# Altium footprint library Cube.PcbLib: 27 footprints (part 1 of 2)
Each footprint in its own frame and in the unit in brackets; x right, y up, seen from the top. Pads: shape width x height; smd on the part's side, far side on the other; paste and mask are expansions set on the pad; w line width, h text height; cw(c..) or ccw(c..) is an arc to the next point about the centre after c.
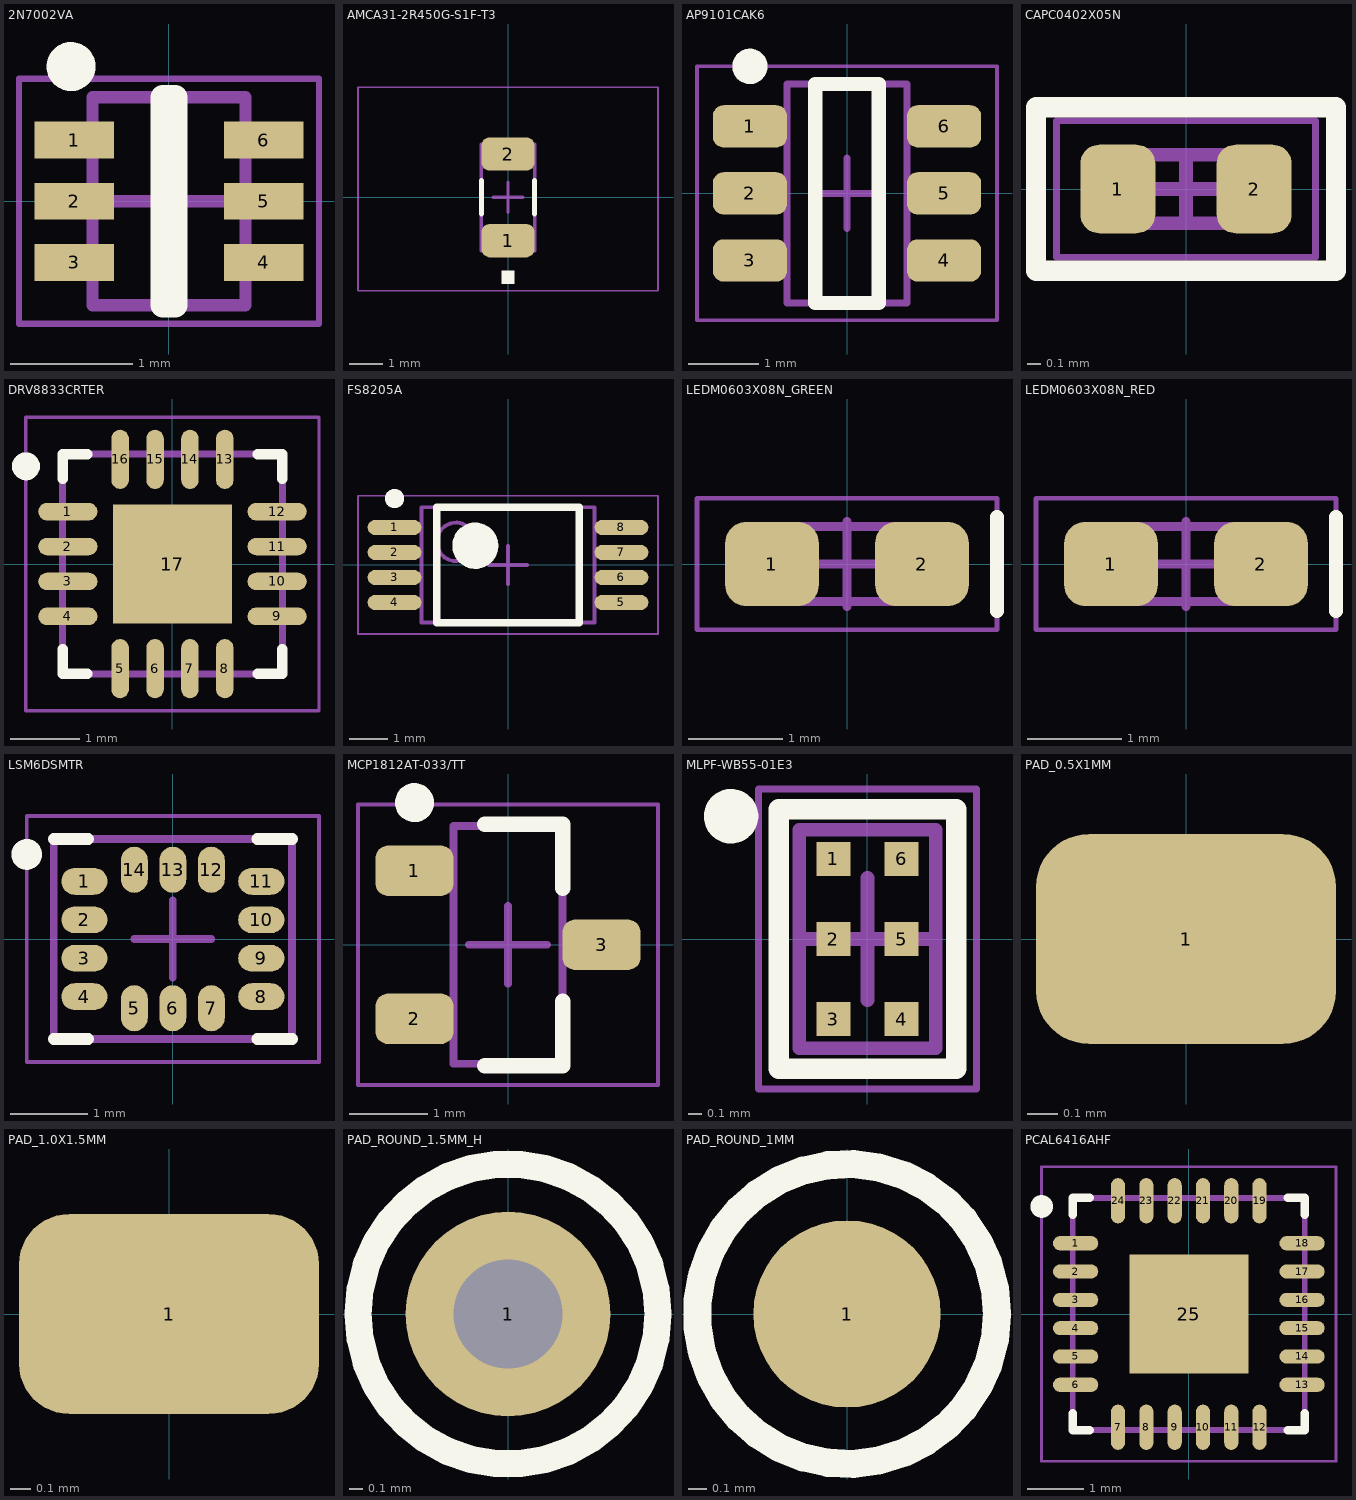
[diagram p0: the footprints below, top view; thin cyan lines are the x and y axes]

## 2N7002VA [mm] "SOTFL, 6-Leads, Body 1.60x1.63mm, Pitch 0.50mm, IPC Medium Density"
height 0.6
pads (6):
  rect 0.65x0.3 smd: 1(-0.775,0.5) 2(-0.775,0) 3(-0.775,-0.5) 4(0.775,-0.5) 5(0.775,0) 6(0.775,0.5)
Top Overlay:
  circle w0.2: c-0.8,1.1 r0.1
  lines w0.2: -0.05,-0.85 0.05,-0.85 0.05,0.85 -0.05,0.85 -0.05,-0.85
Top Assembly:
  lines w0.1: -0.625,-0.85 -0.625,0.85 0.625,0.85 0.625,-0.85 -0.625,-0.85
  text "'.Designator'" at -1.203,-0.113 h0.5
Top Courtyard:
  lines w0.05: -1.225,-1 -1.225,1 1.225,1 1.225,-1 -1.225,-1
  lines w0.1: -0.5,0 0.5,0 ; 0,-0.5 0,0.5
3D body "SOTFL50P162X60-6N.step": height 0.6, standoff 0, extent -0.813,-0.848 0.813,0.848

## AMCA31-2R450G-S1F-T3 [mm]
pads (2):
  rrect50% 1.6x1 smd: 1(0,-1.3) 2(0,1.3)
Top Overlay:
  rectangle: -0.2,-2.6 0.2,-2.2
  lines w0.15: -0.8,-0.5 -0.8,0.5 ; 0.8,-0.5 0.8,0.5
Top Assembly:
  lines w0.1: -0.8,-1.6 -0.8,1.6 0.8,1.6 0.8,-1.6 -0.8,-1.6
  text "'.Designator'" at -1.203,-0.113 h0.5
Top Courtyard:
  lines w0.05: -4.5,-2.8 -4.5,3.3 4.5,3.3 4.5,-2.8 -4.5,-2.8
  lines w0.1: -0.45,0 0.45,0 ; 0,-0.45 0,0.45
  text "Keep Clear / No ground plane" at 0.432,-2.736 h0.6
3D body "AMCA31-2R450G-S1F-T.STEP": height 1.21, standoff 0.01, extent -0.8,-1.6 0.8,1.6

## AP9101CAK6 [mm] "SOT23, 6-Leads, Body 3.00x2.85mm, Pitch 0.95mm, IPC Medium Density"
height 1.4
pads (6):
  rrect50% 1.05x0.6 smd: 1(-1.375,0.95) 2(-1.375,0) 3(-1.375,-0.95) 4(1.375,-0.95) 5(1.375,0) 6(1.375,0.95)
Top Overlay:
  circle w0.25: c-1.375,1.8 r0.125
  lines w0.2: -0.45,-1.55 -0.45,1.55 0.45,1.55 0.45,-1.55 -0.45,-1.55
Top Assembly:
  lines w0.1: -0.85,-1.55 0.85,-1.55 0.85,1.55 -0.85,1.55 -0.85,-1.55
  text "'.Designator'" at 0.226,-2.416 h1
Top Courtyard:
  lines w0.05: -2.125,-1.8 2.125,-1.8 2.125,1.8 -2.125,1.8 -2.125,-1.8
  lines w0.1: -0.5,0 0.5,0 ; 0,-0.5 0,0.5
3D body "SOT95P285X140-6N.step": height 1.4, standoff 0, extent -1.5,-1.55 1.5,1.55

## CAPC0402X05N [mm] "Chip Capacitor, 2-Leads, Body 1.00x0.50mm, IPC Medium Density"
height 0.5
pads (2):
  rrect50% 0.55x0.65 smd: 1(-0.5,0) 2(0.5,0)
Top Overlay:
  lines w0.15: -1.1,-0.6 1.1,-0.6 1.1,0.6 -1.1,0.6 -1.1,-0.6
Top Assembly:
  lines w0.1: -0.5,-0.25 -0.5,0.25 0.5,0.25 0.5,-0.25 -0.5,-0.25
  text "'.Designator'" at -0.726,-0.068 h0.3
Top Courtyard:
  lines w0.05: -0.95,-0.5 0.95,-0.5 0.95,0.5 -0.95,0.5 -0.95,-0.5
  lines w0.1: -0.25,0 0.25,0 ; 0,-0.25 0,0.25
3D body "CAPC1005X05N.step": height 0.5, standoff 0, extent -0.5,-0.25 0.5,0.25

## DRV8833CRTER [mm] "QFN, 16-Leads, Body 3.00x3.00mm, Pitch 0.50mm, Thermal Pad 1.66x1.66mm, IPC Medium Density"
height 0.8
pads (17):
  oval 0.85x0.25 smd: 1(-1.5,0.75) 2(-1.5,0.25) 3(-1.5,-0.25) 4(-1.5,-0.75) 9(1.5,-0.75) 10(1.5,-0.25) 11(1.5,0.25) 12(1.5,0.75)
  oval 0.25x0.85 smd: 5(-0.75,-1.5) 6(-0.25,-1.5) 7(0.25,-1.5) 8(0.75,-1.5) 13(0.75,1.5) 14(0.25,1.5) 15(-0.25,1.5) 16(-0.75,1.5)
  rect 1.7x1.7 smd: 17(0,0)
Top Overlay:
  circle w0.2: c-2.1,1.4 r0.1
  lines w0.15: -1.575,-1.225 -1.575,-1.575 -1.225,-1.575 ; -1.575,1.225 -1.575,1.575 -1.225,1.575 ; 1.225,-1.575 1.575,-1.575 1.575,-1.225 ; 1.225,1.575 1.575,1.575 1.575,1.225
Top Assembly:
  lines w0.1: -1.575,-1.575 -1.575,1.575 1.575,1.575 1.575,-1.575 -1.575,-1.575
  text "'.Designator'" at -2.416,-0.414 h0.8
Top Courtyard:
  lines w0.05: -2.1,-2.1 -2.1,2.1 2.1,2.1 2.1,-2.1 -2.1,-2.1
  lines w0.1: -0.5,0 0.5,0 ; 0,-0.5 0,0.5
3D body "QFN50P300X300X80_HS-17N.step": height 0.8, standoff 0, extent -1.595,-1.595 1.595,1.595

## FS8205A [mm] "TSOP, 8-Leads, Body 2.93x4.40mm, Pitch 0.65mm, IPC Medium Density"
height 1.2
pads (8):
  oval 1.4x0.4 smd: 1(-2.95,0.975) 2(-2.95,0.325) 3(-2.95,-0.325) 4(-2.95,-0.975) 5(2.95,-0.975) 6(2.95,-0.325) 7(2.95,0.325) 8(2.95,0.975)
Top Overlay:
  circle w0.25: c-2.95,1.725 r0.125
  circle w0.6: c-0.85,0.5 r0.3
  lines w0.2: -1.85,-1.5 -1.85,1.5 1.85,1.5 1.85,-1.5 -1.85,-1.5
Top Assembly:
  circle w0.1: c-1.35,0.6 r0.5
  lines w0.1: -2.25,-1.5 -2.25,1.5 2.25,1.5 2.25,-1.5 -2.25,-1.5
  text "'.Designator'" at -2.416,-0.226 h1
Top Courtyard:
  lines w0.05: -3.9,-1.8 -3.9,1.8 3.9,1.8 3.9,-1.8 -3.9,-1.8
  lines w0.1: -0.5,0 0.5,0 ; 0,-0.5 0,0.5
3D body "TSOP65P640X120-8N.step": height 1.2, standoff 0, extent -3.2,-1.5 3.2,1.5

## LEDM0603X08N_GREEN [mm] "0603 chip LED"
height 0.8
pads (2):
  rrect50% 1x0.9 smd: 1(-0.8,0) 2(0.8,0)
Top Overlay:
  region: 1.5,-0.525
  region: 1.5,-0.525
  lines w0.15: 1.6,-0.5 1.6,0.5
Top Assembly:
  lines w0.1: -0.8,-0.4 -0.8,0.4 0.8,0.4 0.8,-0.4 -0.8,-0.4
  text "'.Designator'" at -0.45,-0.15 h0.5
Top Courtyard:
  lines w0.05: -1.6,-0.7 -1.6,0.7 1.6,0.7 1.6,-0.7 -1.6,-0.7
  lines w0.1: -0.45,0 0.45,0 ; 0,-0.45 0,0.45
3D body "LEDM0603X08N_GREEN.STEP": height 0.8, standoff 0, extent -0.8,-0.4 0.8,0.4

## LEDM0603X08N_RED [mm] "0603 chip LED"
height 0.8
pads (2):
  rrect50% 1x0.9 smd: 1(-0.8,0) 2(0.8,0)
Top Overlay:
  region: 1.5,-0.525
  region: 1.5,-0.525
  lines w0.15: 1.6,-0.5 1.6,0.5
Top Assembly:
  lines w0.1: -0.8,-0.4 0.8,-0.4 0.8,0.4 -0.8,0.4 -0.8,-0.4
  text "'.Designator'" at -0.45,-0.15 h0.5
Top Courtyard:
  lines w0.05: -1.6,-0.7 1.6,-0.7 1.6,0.7 -1.6,0.7 -1.6,-0.7
  lines w0.1: -0.45,0 0.45,0 ; 0,-0.45 0,0.45
3D body "LEDM0603X08N_RED.STEP": height 0.8, standoff 0, extent -0.8,-0.4 0.8,0.4

## LSM6DSMTR [mm] "PQFN, 14-Leads, Body 3.00x2.50mm, Pitch 0.50mm, IPC Medium Density"
height 0.86
pads (14):
  oval 0.6x0.35 smd: 1(-1.15,0.75) 2(-1.15,0.25) 3(-1.15,-0.25) 4(-1.15,-0.75) 8(1.15,-0.75) 9(1.15,-0.25) 10(1.15,0.25) 11(1.15,0.75)
  oval 0.35x0.6 smd: 5(-0.5,-0.9) 6(0,-0.9) 7(0.5,-0.9) 12(0.5,0.9) 13(0,0.9) 14(-0.5,0.9)
Top Overlay:
  circle w0.2: c-1.9,1.1 r0.1
  lines w0.15: -1.55,-1.3 -1.1,-1.3 ; -1.55,1.3 -1.1,1.3 ; 1.1,-1.3 1.55,-1.3 ; 1.1,1.3 1.55,1.3
Top Assembly:
  lines w0.1: -1.55,-1.3 -1.55,1.3 1.55,1.3 1.55,-1.3 -1.55,-1.3
  text "'.Designator'" at -2.416,-0.414 h0.5
Top Courtyard:
  lines w0.05: -1.9,-1.6 -1.9,1.6 1.9,1.6 1.9,-1.6 -1.9,-1.6
  lines w0.1: -0.5,0 0.5,0 ; 0,-0.5 0,0.5
3D body "PQFN50P300X250X86-14N.step": height 0.86, standoff 0, extent -1.55,-1.3 1.55,1.3

## MCP1812AT-033/TT [mm] "SOT23, 3-Leads, Body 2.00x2.10mm, Pitch 0.65mm, IPC Medium Density"
height 1.1
pads (3):
  rrect50% 1x0.65 smd: 1(-1.2,0.95) 2(-1.2,-0.95) 3(1.2,0)
Top Overlay:
  circle w0.25: c-1.2,1.825 r0.125
  lines w0.2: -0.3,-1.55 0.7,-1.55 0.7,-0.725 ; -0.3,1.55 0.7,1.55 0.7,0.725
Top Assembly:
  lines w0.1: -0.7,-1.525 0.7,-1.525 0.7,1.525 -0.7,1.525 -0.7,-1.525
  text "'.Designator'" at 0.207,-1.203 h0.5
Top Courtyard:
  lines w0.05: -1.925,-1.8 1.925,-1.8 1.925,1.8 -1.925,1.8 -1.925,-1.8
  lines w0.1: -0.5,0 0.5,0 ; 0,-0.5 0,0.5
3D body "SOT95P237X112-3N.step": height 1.12, standoff 0, extent -1.32,-1.525 1.32,1.525

## MLPF-WB55-01E3 [mm] "MLPF-WB55-01E3"
height 0.45
pads (6):
  rect 0.25x0.25 smd: 1(-0.25,0.587) 2(-0.25,0) 3(-0.25,-0.587) 4(0.25,-0.587) 5(0.25,0) 6(0.25,0.587)
Top Overlay:
  circle w0.2: c-1,0.9 r0.1
  lines w0.15: -0.65,-0.95 -0.65,0.95 0.65,0.95 0.65,-0.95 -0.65,-0.95
Top Assembly:
  lines w0.1: -0.5,-0.8 -0.5,0.8 0.5,0.8 0.5,-0.8 -0.5,-0.8
  text "'.Designator'" at -1.203,-0.206 h0.5
Top Courtyard:
  lines w0.05: -0.8,-1.1 -0.8,1.1 0.8,1.1 0.8,-1.1 -0.8,-1.1
  lines w0.1: -0.45,0 0.45,0 ; 0,-0.45 0,0.45
3D body "MLPF-WB55-01E3.STEP": height 0.45, standoff 0, extent -0.5,-0.8 0.5,0.8

## PAD_0.5X1MM [mm]
pads (1):
  rrect50% 1x0.7 smd: 1(0,0)

## PAD_1.0X1.5MM [mm]
pads (1):
  rrect50% 1.5x1 smd: 1(0,0)

## PAD_ROUND_1.5MM_H [mm]
pads (1):
  round 1.5 hole 0.8: 1(0,0)
Top Overlay:
  circle w0.2: c0,0 r1.1

## PAD_ROUND_1MM [mm]
pads (1):
  round 1 smd: 1(0,0)
Top Overlay:
  circle w0.15: c0,0 r0.8

## PCAL6416AHF [mm] "QFN, 24-Leads, Body 4.00x4.00mm, Pitch 0.50mm, Thermal Pad 2.10x2.10mm, IPC Medium Density"
height 0.8
pads (25):
  oval 0.8x0.25 smd: 1(-2,1.25) 2(-2,0.75) 3(-2,0.25) 4(-2,-0.25) 5(-2,-0.75) 6(-2,-1.25) 13(2,-1.25) 14(2,-0.75) 15(2,-0.25) 16(2,0.25) 17(2,0.75) 18(2,1.25)
  oval 0.25x0.8 smd: 7(-1.25,-2) 8(-0.75,-2) 9(-0.25,-2) 10(0.25,-2) 11(0.75,-2) 12(1.25,-2) 19(1.25,2) 20(0.75,2) 21(0.25,2) 22(-0.25,2) 23(-0.75,2) 24(-1.25,2)
  rect 2.1x2.1 smd: 25(0,0)
Top Overlay:
  circle w0.2: c-2.6,1.9 r0.1
  lines w0.15: -2.05,-1.75 -2.05,-2.05 -1.75,-2.05 ; -2.05,1.75 -2.05,2.05 -1.75,2.05 ; 1.75,-2.05 2.05,-2.05 2.05,-1.75 ; 1.75,2.05 2.05,2.05 2.05,1.75
Top Assembly:
  lines w0.1: -2.05,-2.05 -2.05,2.05 2.05,2.05 2.05,-2.05 -2.05,-2.05
  text "'.Designator'" at -2.416,-0.414 h0.8
Top Courtyard:
  lines w0.05: -2.6,-2.6 -2.6,2.6 2.6,2.6 2.6,-2.6 -2.6,-2.6
  lines w0.1: -0.5,0 0.5,0 ; 0,-0.5 0,0.5
3D body "QFN50P400X400X80_HS-25N.step": height 0.8, standoff 0, extent -2.07,-2.07 2.07,2.07